# Altium footprint library TO-220-3.PcbLib: 1 footprints
Each footprint in its own frame and in the unit in brackets; x right, y up, seen from the top. Pads: shape width x height; smd on the part's side, far side on the other; paste and mask are expansions set on the pad; w line width, h text height; cw(c..) or ccw(c..) is an arc to the next point about the centre after c.
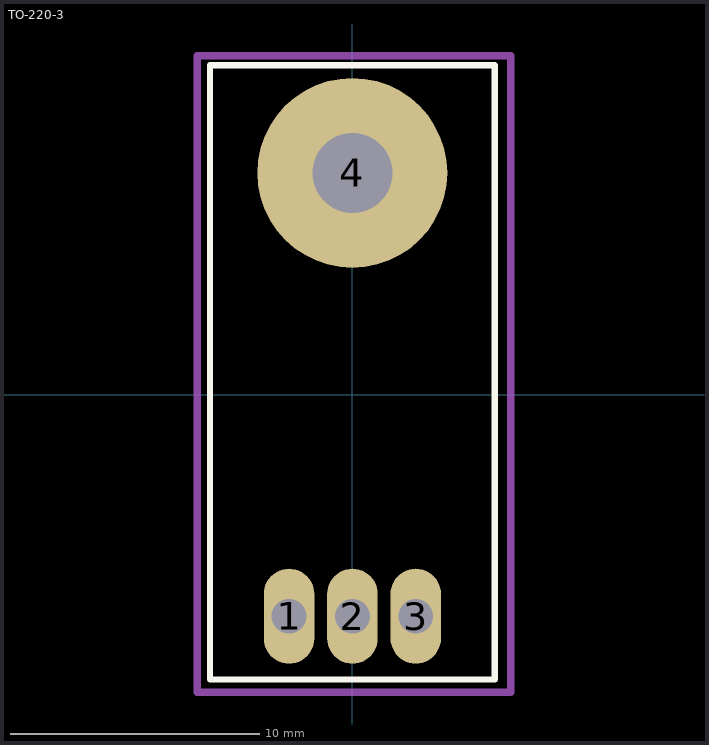
[diagram p0: the footprint, top view; thin cyan lines are the x and y axes]

## TO-220-3 [mil]
pads (4):
  oval 80x150 hole 55: 1(-100,-350) 2(0,-350) 3(100,-350)
  round 300 hole 126: 4(0,350)
Top Overlay:
  lines w10: -225,-450 225,-450 225,520 -225,520 -225,-450
Mechanical 15:
  lines w11.81: -245,-470 250,-470 250,535 -245,535 -245,-470
3D body "step_temp.STEP": height 775, standoff -407, extent -195,-422.5 197.5,-247.5